# Altium schematic symbol library SJ-43514-SMT-TR.SchLib: 1 symbol
Pins are listed as number, name and electrical type; pins without a type are passive.

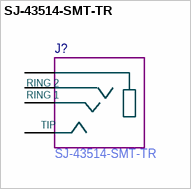
[diagram p0: symbol SJ-43514-SMT-TR]

## SJ-43514-SMT-TR
designator J?  Manufacturer Part Nmuber: SJ-43514-SMT-TR  (hidden comment: *)
pins: 1 SLEEVE, 2 TIP, 3 RING1, 4 RING2
text: RING 2; RING 1